# Altium footprint library Res1W4.PcbLib: 1 footprints
Each footprint in its own frame and in the unit in brackets; x right, y up, seen from the top. Pads: shape width x height; smd on the part's side, far side on the other; paste and mask are expansions set on the pad; w line width, h text height; cw(c..) or ccw(c..) is an arc to the next point about the centre after c.
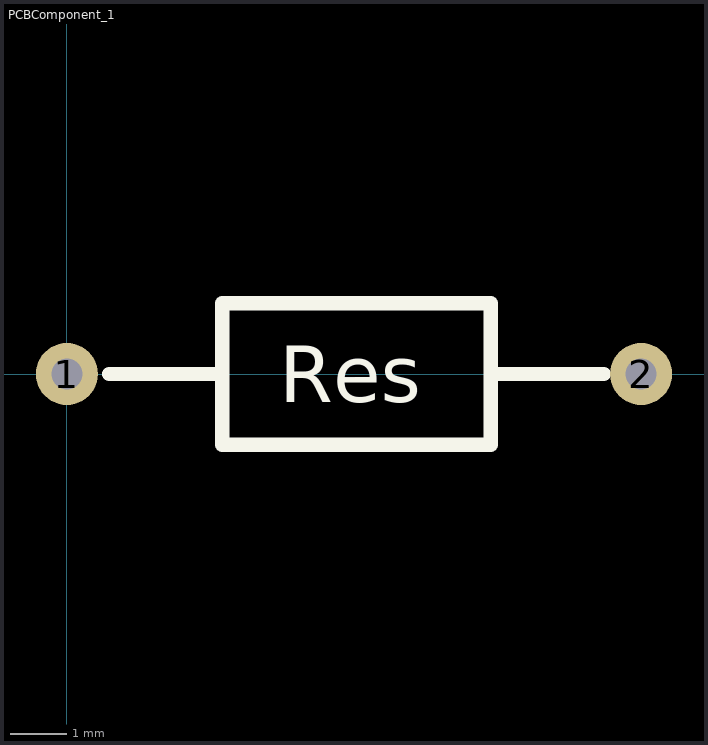
[diagram p0: the footprint, top view; thin cyan lines are the x and y axes]

## PCBComponent_1 [mm]
pads (2):
  round 1.1 hole 0.55: 1(0,0) 2(10.16,0)
Top Overlay:
  lines w0.254: 0.75,0 2.75,0 ; 9.5,0 7.5,0 ; 2.75,0 2.75,1.25 7.5,1.25 7.5,0 ; 2.75,0 2.75,-1 2.75,-1.25 7.5,-1.25 7.5,0
  text "Res" at 3.754,-0.496 h1
3D body "2.1k.step": height 4, standoff -3.19, extent -0.4,-1.2 10.4,1.2